# Altium schematic symbol library BEAD_FERRITE.Schlib: 1 symbol
Pins are listed as number, name and electrical type; pins without a type are passive.

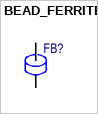
[diagram p0: symbol BEAD_FERRITE]

## BEAD_FERRITE
designator FB?  (value not drawn)
pins: 1, 2
1 alternate drawing of the same symbol